# EAGLE library part SW_ROT_4P3T (library wheat)
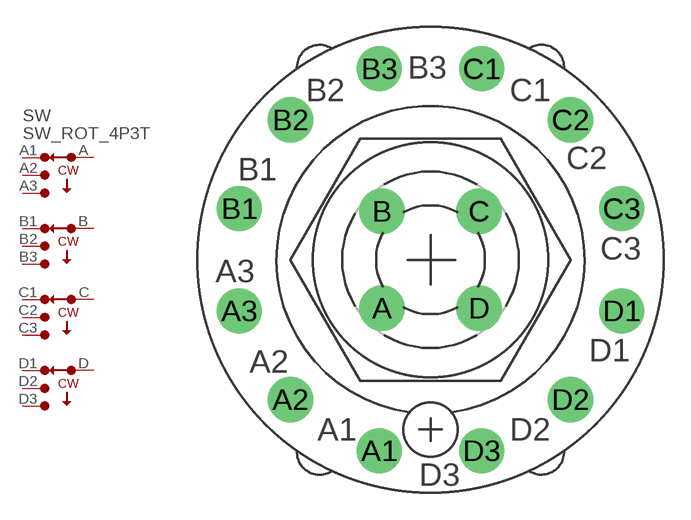
[diagram p244: symbol with the pads of SW_LORLIN_4P3T; footprint SW_LORLIN_4P3T]

Designator prefix SW

## SW_ROT_4P3T  [SW_LORLIN_4P3T]
A  AC  pas
A1  A1  pas
A2  A2  pas
A3  A3  pas
B  BC  pas
B1  B1  pas
B2  B2  pas
B3  B3  pas
C  CC  pas
C1  C1  pas
C2  C2  pas
C3  C3  pas
D  DC  pas
D1  D1  pas
D2  D2  pas
D3  D3  pas

## Footprint SW_LORLIN_4P3T (pad centres in mm)
drill 1.5 pad 2.54: A -2.72,-2.72; A1 -2.87,-10.72; A2 -7.85,-7.85; A3 -10.72,-2.87; B -2.72,2.72; B1 -10.72,2.87; B2 -7.85,7.85; B3 -2.87,10.72; C 2.72,2.72; C1 2.87,10.72; C2 7.85,7.85; C3 10.72,2.87; D 2.72,-2.72; D1 10.72,-2.87; D2 7.85,-7.85; D3 2.87,-10.72